# Altium footprint library Custom.PcbLib: 28 footprints (part 2 of 2)
Each footprint in its own frame and in the unit in brackets; x right, y up, seen from the top. Pads: shape width x height; smd on the part's side, far side on the other; paste and mask are expansions set on the pad; w line width, h text height; cw(c..) or ccw(c..) is an arc to the next point about the centre after c.
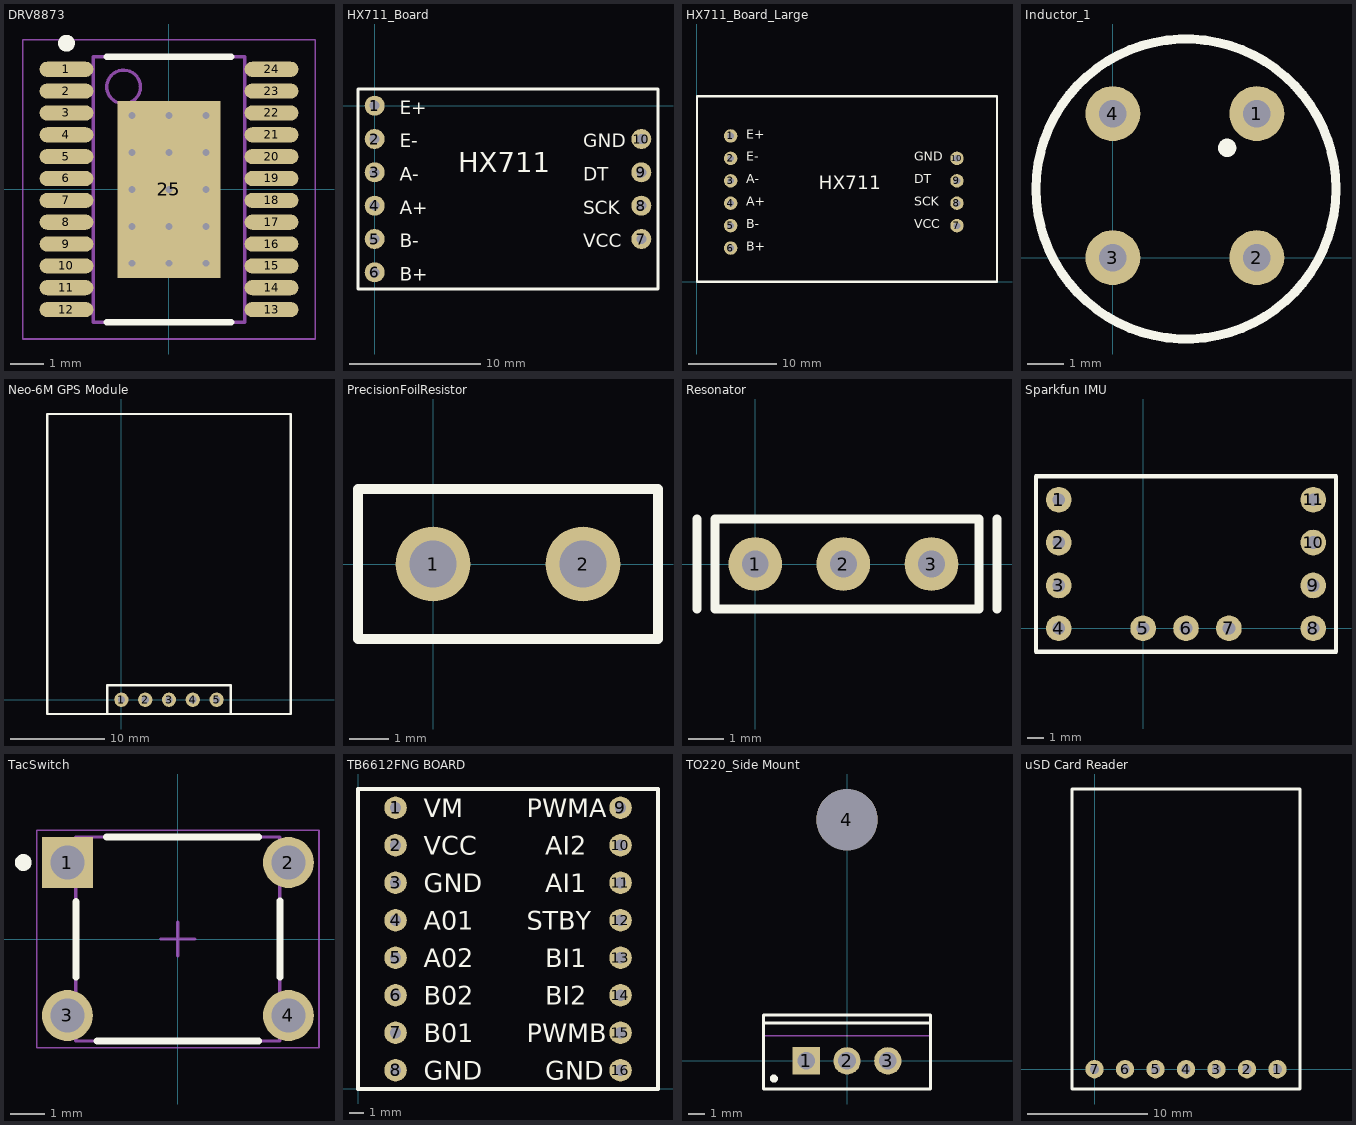
[diagram p1: the footprints below, top view; thin cyan lines are the x and y axes]

## DRV8873 [mm] "TSOP, 24-Leads, Body 7.80x4.40mm, Pitch 0.65mm, Thermal Pad 5.26x3.05mm, IPC Low Density"
height 1.2
pads (25):
  oval 1.6x0.45 smd: 1(-3.05,3.575) 2(-3.05,2.925) 3(-3.05,2.275) 4(-3.05,1.625) 5(-3.05,0.975) 6(-3.05,0.325) 7(-3.05,-0.325) 8(-3.05,-0.975) 9(-3.05,-1.625) 10(-3.05,-2.275) 11(-3.05,-2.925) 12(-3.05,-3.575) 13(3.05,-3.575) 14(3.05,-2.925) 15(3.05,-2.275) 16(3.05,-1.625) 17(3.05,-0.975) 18(3.05,-0.325) 19(3.05,0.325) 20(3.05,0.975) 21(3.05,1.625) 22(3.05,2.275) 23(3.05,2.925) 24(3.05,3.575)
  rect 3.05x5.26 smd: 25(0,0)
via 1.1,-2.2 diameter 0.5 hole 0.2
via 0,-2.2 diameter 0.5 hole 0.2
via -1.1,-2.2 diameter 0.5 hole 0.2
via 1.1,-1.1 diameter 0.5 hole 0.2
via 0,-1.1 diameter 0.5 hole 0.2
via -1.1,-1.1 diameter 0.5 hole 0.2
via 1.1,0 diameter 0.5 hole 0.2
via 0,0 diameter 0.5 hole 0.2
via -1.1,0 diameter 0.5 hole 0.2
via 1.1,1.1 diameter 0.5 hole 0.2
via 0,1.1 diameter 0.5 hole 0.2
via -1.1,1.1 diameter 0.5 hole 0.2
via 1.1,2.2 diameter 0.5 hole 0.2
via 0,2.2 diameter 0.5 hole 0.2
via -1.1,2.2 diameter 0.5 hole 0.2
Top Overlay:
  circle w0.25: c-3.05,4.35 r0.125
  lines w0.2: -1.85,-3.95 1.85,-3.95 ; -1.85,3.95 1.85,3.95
Mechanical 13:
  circle w0.1: c-1.35,3.05 r0.5
  lines w0.1: -2.25,-3.95 2.25,-3.95 2.25,3.95 -2.25,3.95 -2.25,-3.95
Mechanical 15:
  lines w0.05: -4.35,-4.45 4.35,-4.45 4.35,4.45 -4.35,4.45 -4.35,-4.45
  lines w0.1: -0.5,0 0.5,0 ; 0,-0.5 0,0.5
3D body: height 1.2, standoff 0.05, extent -2.25,-3.95 2.25,3.95

## HX711_Board [mil]
pads (10):
  round 60 hole 30: 1(0,0) 2(0,-100) 3(0,-200) 4(0,-300) 5(0,-400) 6(0,-500) 7(800,-400) 8(800,-300) 9(800,-200) 10(800,-100)
Top Overlay:
  lines w10: -50,-550 850,-550 850,50 -50,50 -50,-550
  text "VCC" at 625,-425 h40
  text "SCK" at 625,-325 h40
  text "DT" at 625,-225 h40
  text "GND" at 625,-125 h40
  text "B+" at 75,-525 h40
  text "B-" at 75,-425 h40
  text "A+" at 75,-325 h40
  text "A-" at 75,-225 h40
  text "E-" at 75,-125 h40
  text "E+" at 75,-25 h40
  text "HX711" at 250,-200 h60

## HX711_Board_Large [mil]
pads (10):
  round 60 hole 30: 1(150,650) 2(150,550) 3(150,450) 4(150,350) 5(150,250) 6(150,150) 7(1160,250) 8(1160,350) 9(1160,450) 10(1160,550)
Top Overlay:
  lines w10: 0.01,0 0.01,826.77 1338.59,826.77 1338.59,0 0.01,0
  text "VCC" at 969.3,238.39 h40
  text "SCK" at 969.3,338.39 h40
  text "DT" at 969.3,438.39 h40
  text "GND" at 969.3,538.39 h40
  text "B+" at 219.3,138.39 h40
  text "B-" at 219.3,238.39 h40
  text "A+" at 219.3,338.39 h40
  text "A-" at 219.3,438.39 h40
  text "E-" at 219.3,538.39 h40
  text "E+" at 219.3,638.39 h40
  text "HX711" at 544.3,413.39 h60
3D body "HX711.SLDPRT": height 77.42, standoff 0, extent 0,0 1338.58,826.77

## Inductor_1 [mil]
pads (4):
  round 60 hole 30: 1(157.48,157.48) 2(157.48,0) 3(0,0) 4(0,157.48)
Top Overlay:
  circle w10: c125,120 r5
  circle w10: c80,75 r164.01

## Neo-6M GPS Module [mil] "GPS Module"
pads (5):
  round 60 hole 30: 1(0,0) 2(100,0) 3(200,0) 4(300,0) 5(400,0)
Top Overlay:
  lines w10: -60,-60 -60,60 460,60 460,-60 ; -311.81,-60 200,-60 711.81,-60 711.81,1199.84 -311.81,1199.84 -311.81,-60

## PrecisionFoilResistor [mm]
pads (2):
  round 1.905 hole 1.2: 1(0,0) 2(3.81,0)
Top Overlay:
  lines w0.254: -1.905,-1.905 5.715,-1.905 5.715,1.905 -1.905,1.905 -1.905,-1.905

## Resonator [mil] "16MHz"
pads (3):
  round 60 hole 30: 1(0,0) 2(98.43,0) 3(196.85,0)
Top Overlay:
  lines w10: -65,-50 -65,50 ; 270,-50 270,50 ; -45,-50 250,-50 250,50 -45,50 -45,-50

## Sparkfun IMU [mil] "MPU-9250 breakout footprint"
pads (11):
  round 60 hole 30: 1(-196.85,300) 2(-196.85,200) 3(-196.85,100) 4(-196.85,0) 5(0,0) 6(100,0) 7(200,0) 8(396.85,0) 9(396.85,100) 10(396.85,200) 11(396.85,300)
Top Overlay:
  lines w10: -250,-55 450,-55 450,355 -250,355 -250,-55

## TacSwitch [mm]
pads (4):
  rect 1.5x1.5 hole 1 paste+0: 1(-3.25,2.25)
  round 1.5 hole 1 paste+0: 2(3.25,2.25) 3(-3.25,-2.25) 4(3.25,-2.25)
Top Overlay:
  circle w0.25: c-4.55,2.25 r0.125
  lines w0.2: -3,-1.127 -3,1.1 ; -2.378,-3 2.378,-3 ; -2.1,3 2.378,3 ; 3,-1.127 3,1.127
Mechanical 13:
  lines w0.1: -3,-3 -3,3 3,3 3,-3 -3,-3
Mechanical 15:
  lines w0.05: -4.15,-3.2 -4.15,3.2 4.15,3.2 4.15,-3.2 -4.15,-3.2
  lines w0.1: -0.5,0 0.5,0 ; 0,-0.5 0,0.5
3D body "tactileswitch-short.SLDPRT": height 4.95, standoff -3.38, extent -3.842,-3.003 3.842,3.004

## TB6612FNG BOARD [mil]
pads (16):
  round 60 hole 30: 1(100,750) 2(100,650) 3(100,550) 4(100,450) 5(100,350) 6(100,250) 7(100,150) 8(100,50) 9(700,750) 10(700,650) 11(700,550) 12(700,450) 13(700,350) 14(700,250) 15(700,150) 16(700,50)
Top Overlay:
  lines w10: 0,0 0,800 800,800 800,0 0,0
  text "GND" at 500,25 h50
  text "PWMB" at 450,125 h50
  text "BI2" at 500,225 h50
  text "BI1" at 500,325 h50
  text "STBY" at 450,425 h50
  text "AI1" at 500,525 h50
  text "AI2" at 500,625 h50
  text "PWMA" at 450,725 h50
  text "GND" at 175,25 h50
  text "B01" at 175,125 h50
  text "B02" at 175,225 h50
  text "A02" at 175,325 h50
  text "A01" at 175,425 h50
  text "GND" at 175,525 h50
  text "VCC" at 175,625 h50
  text "VM" at 175,725 h50

## TO220_Side Mount [mm]
pads (4):
  rect 1.7x1.7 hole 1.1: 1(-2.54,0)
  round 1.7 hole 1.1: 2(0,0) 3(2.54,0)
  round 3.81 hole 3.81: 4(0,15)
Top Overlay:
  circle w0.25: c-4.55,-1.1 r0.125
  lines w0.2: -5.2,2.35 5.2,2.35 ; -5.2,-1.75 5.2,-1.75 5.2,2.85 -5.2,2.85 -5.2,-1.75
Mechanical 13:
  lines w0.1: -5.2,1.55 5.2,1.55 ; -5.2,-1.75 -5.2,2.85 5.2,2.85 5.2,-1.75 -5.2,-1.75
Mechanical 15:
  lines w0.1: -0.5,0 0.5,0 ; 0,-0.5 0,0.5
3D body: height 13.05, standoff 3.5, extent -5.25,-1.8 5.25,2.9
3D body: height 19.7, standoff 13.05, extent -5.199,1.551 5.199,2.849

## uSD Card Reader [mil] "micro SD card reader from sparkfun"
pads (7):
  round 60 hole 30: 1(600,0) 2(500,0) 3(400,0) 4(300,0) 5(200,0) 6(100,0) 7(0,0)
Top Overlay:
  lines w10: -74.02,-65 300,-65 674.02,-65 674.02,919.25 -74.02,919.25 -74.02,-65